# EAGLE library part A8498 (library FSAE Electric (Alexander Ray's conflicted copy 2016-04-02))
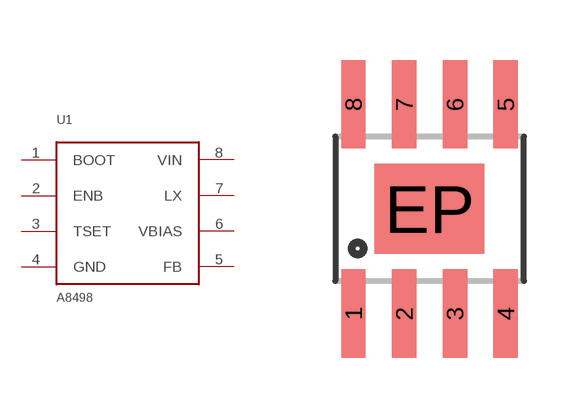
[diagram p45: symbol with the pads of SO-8-PO; footprint SO-8-PO]

Designator prefix U1

## A8498 (PARTNO: A8498SLJTR-T)  [SO-8-PO]
1  BOOT
2  ENB
3  TSET
4  GND
5  FB
6  VBIAS
7  LX
8  VIN

## Footprint SO-8-PO (pad centres in mm)
smd 0.61 x 2.21: 1 -1.905,-2.616; 2 -0.635,-2.616; 3 0.635,-2.616; 4 1.905,-2.616; 5 1.905,2.616; 6 0.635,2.616; 7 -0.635,2.616; 8 -1.905,2.616
smd 2.75 x 2.25: EP 0,0